# Altium footprint library PcbLib.PcbLib: 63 footprints (part 1 of 4)
Each footprint in its own frame and in the unit in brackets; x right, y up, seen from the top. Pads: shape width x height; smd on the part's side, far side on the other; paste and mask are expansions set on the pad; w line width, h text height; cw(c..) or ccw(c..) is an arc to the next point about the centre after c.
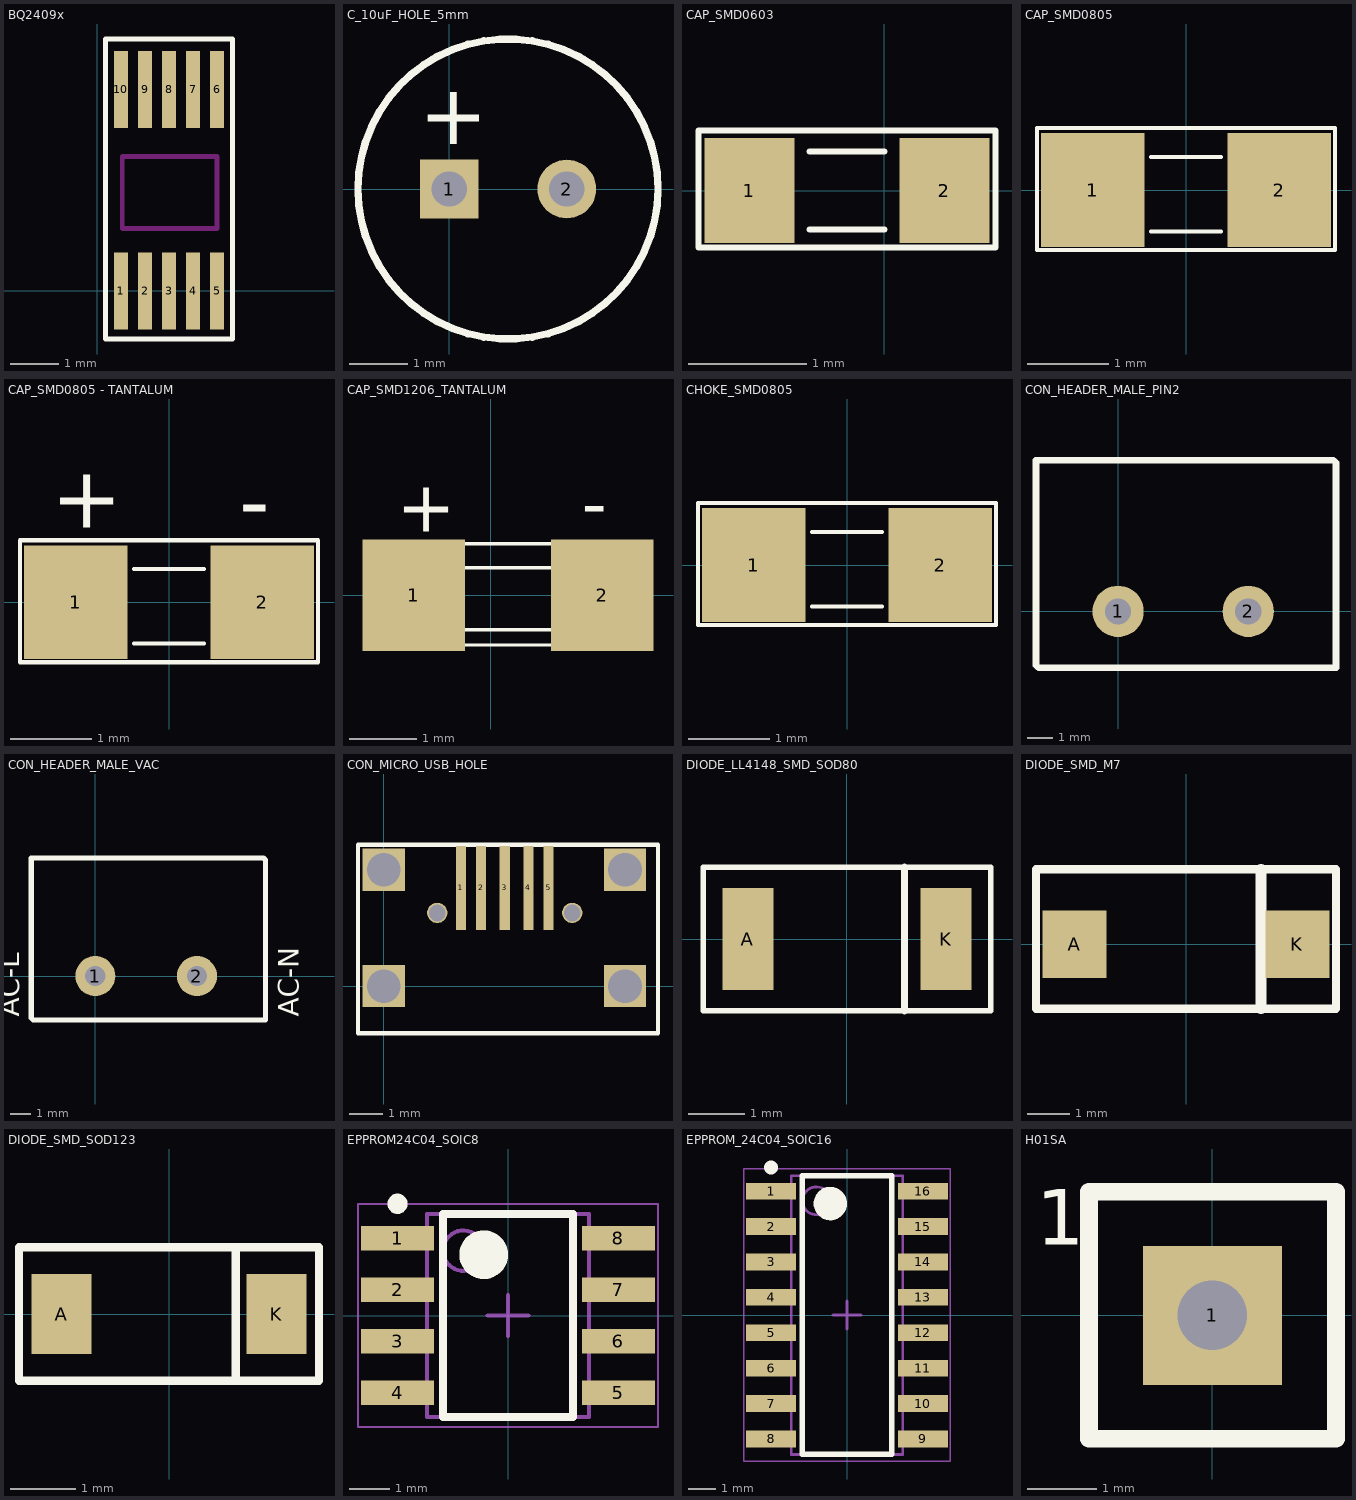
[diagram p0: the footprints below, top view; thin cyan lines are the x and y axes]

## BQ2409x [mm]
pads (10):
  rect 0.3x1.6 smd: 1(0.5,0) 2(1,0) 3(1.5,0) 4(2,0) 5(2.5,0) 6(2.5,4.2) 7(2,4.2) 8(1.5,4.2) 9(1,4.2) 10(0.5,4.2)
Top Overlay:
  lines w0.1: 0.175,-1 0.175,5.25 2.825,5.25 2.825,-1 0.175,-1
Keep-Out Layer:
  lines w0.1: 0.525,1.3 2.5,1.3 2.5,2.8 1.7,2.8 0.525,2.8 0.525,1.3
3D body: height 1, standoff 0.5, extent 0.508,-0.254 2.54,4.826

## C_10uF_HOLE_5mm [mm]
pads (2):
  rect 1x1 hole 0.6: 1(0,0)
  round 1 hole 0.6: 2(2,0)
Top Overlay:
  circle w0.127: c1,0 r2.551
  text "+" at -0.508,0.762 h1.02
3D body "CircuitWorks-CAPACITOR- PANASONIC M SERIES.step": height 11, standoff -5, extent -1.5,-2.5 3.5,2.5

## CAP_SMD0603 [mil] "Compoment SMD 60x30mil"
height 50
pads (2):
  rect 30x35 smd: 1(-45,0) 2(20,0)
Top Overlay:
  lines w2: -25,-13 0,-13 ; -25,13 0,13 ; -62,-19 -62,20 37,20 37,-19 -0.25,-19 -52.75,-19 -62,-19
3D body "CircuitWorks-CAPACITOR 0603.step": height 32.68, standoff -1.18, extent -46.49,-16.92 16.51,16.93

## CAP_SMD0805 [mil] "Compoment SMD 80x50mil"
height 50
pads (2):
  rect 50x55 smd: 1(-45,0) 2(45,0)
Top Overlay:
  lines w2: -17,-20 17,-20 ; -17,16 17,16 ; -72,-29 72,-29 72,30 -72,30 -72,-29
3D body "User Library-CAPC2012X___.STEP": height 22.44, standoff 0, extent -39.36,-24.99 39.38,25

## CAP_SMD0805 - TANTALUM [mil] "Compoment SMD 80x50mil"
height 50
pads (2):
  rect 50x55 smd: 1(-45,0) 2(45,0)
Top Overlay:
  lines w2: -17,-20 17,-20 ; -17,16 17,16 ; -72,-29 -72,30 72,30 72,-29 -72,-29
  text "+" at -57,36 h30
  text "-" at 34,34 h30
3D body "User Library-CAPC2012X___.STEP": height 22.44, standoff 0, extent -39.36,-24.99 39.38,25

## CAP_SMD1206_TANTALUM [mil] "Compoment SMD 80x50mil"
height 50
pads (2):
  rect 60x65 smd: 1(-45,0) 2(65,0)
Top Overlay:
  lines w2: -17,-20 39,-20 ; -17,16 38,16 ; -72,-29 -72,30 72,30 72,-29 -72,-29
  text "+" at -55,37 h30
  text "-" at 53,39 h30
3D body "CircuitWorks-CAPACITOR 1206.step": height 64.68, standoff -0.68, extent -52.99,-31.42 72.99,30

## CHOKE_SMD0805 [mil] "Compoment SMD 80x50mil"
height 50
pads (2):
  rect 50x55 smd: 1(-45,0) 2(45,0)
Top Overlay:
  lines w2: -17,-20 17,-20 ; -17,16 17,16 ; -72,-29 -72,30 72,30 72,-29 -72,-29
3D body "User Library-CAPC2012X___.STEP": height 22.44, standoff 0, extent -39.36,-24.99 39.38,25

## CON_HEADER_MALE_PIN2 [mm]
pads (2):
  round 2 hole 1.02: 1(0,0) 2(5.08,0)
Top Overlay:
  lines w0.254: -3.2,5.8 -3.2,-2.1 -3.1,-2.2 -3,-2.2 8.5,-2.2 8.5,5.8 8.4,5.9 -3.2,5.9
3D body "User Library-Termial Pugin 2P 5mm.step": height 15.5, standoff -4, extent -3.2,-2.3 8.4,19.2

## CON_HEADER_MALE_VAC [mm]
pads (2):
  round 2 hole 1.02: 1(0,0) 2(5.08,0)
Top Overlay:
  lines w0.254: -3.2,5.8 -3.2,-2.1 -3.1,-2.2 -3,-2.2 8.5,-2.2 8.5,5.8 8.4,5.9 -3.2,5.9
  text "AC-N" at 10.16,-2.032 h1.02
  text "AC-L" at -3.81,-2.032 h1.02
3D body "User Library-Termial Pugin 2P 5mm.step": height 15.5, standoff -4, extent -3.2,-2.3 8.4,19.2

## CON_MICRO_USB_HOLE [mm]
pads (11):
  rect 0.3x2.5 smd mask+0.05: 1(2.286,2.91) 2(2.886,2.91) 3(3.586,2.91) 4(4.286,2.91) 5(4.886,2.91)
  rect 1.25x1.25 hole 1 mask+0.05: ""(0,0) ""(0,3.45) ""(7.15,0) ""(7.15,3.45)
  round 0.6 hole 0.5 mask+0.05: ""(1.586,2.17) ""(5.586,2.17)
Top Overlay:
  lines w0.127: -0.762,-1.397 -0.762,4.191 8.128,4.191 8.128,-1.397 -0.762,-1.397
3D body "User Library-10104111.STEP": height 2.77, standoff -0.3, extent -0.717,-1.449 8.083,4.176

## DIODE_LL4148_SMD_SOD80 [mm]
pads (2):
  rect 0.9x1.8 smd: A(-1.75,0) K(1.75,0)
Top Overlay:
  lines w0.1: -2.54,-1.27 2.54,-1.27 2.54,1.27 -2.54,1.27 -2.54,-0.74 -2.54,-1.27
  lines w0.127: 1.016,-1.27 1.016,1.27
3D body "User Library-MiniMelf-2.step": height 1.6, standoff 0, extent -1.82,-0.8 1.88,0.8

## DIODE_SMD_M7 [mm]
pads (2):
  rect 1.52x1.6 smd: A(-2.64,0) K(2.64,0)
Top Overlay:
  lines w0.2: -3.556,-1.524 -3.556,-0.528 -3.556,1.778 3.556,1.778 3.556,-1.524 -3.556,-1.524
  lines w0.254: 1.778,-1.524 1.778,1.778
3D body "User Library-Diode SMD 1N4007.step": height 2.4, standoff -0.03, extent -2.904,-1.525 2.396,1.585

## DIODE_SMD_SOD123 [mil]
pads (2):
  rect 36x48 smd: A(-64.5,0) K(64.5,0)
Top Overlay:
  lines w5: 40,-40 40,40 ; -90,-40 90,-40 90,40 -90,40 -90,-28.5 -90,-40
3D body "CircuitWorks-SOD123.step": height 50, standoff 0, extent -72.83,-31.49 72.84,31.5

## EPPROM24C04_SOIC8 [mm]
height 1.35
pads (8):
  rect 1.8x0.6 smd: 1(-2.725,1.905) 2(-2.725,0.635) 3(-2.725,-0.635) 4(-2.725,-1.905) 5(2.725,-1.905) 6(2.725,-0.635) 7(2.725,0.635) 8(2.725,1.905)
Top Overlay:
  circle w0.25: c-2.725,2.755 r0.125
  circle w0.6: c-0.6,1.5 r0.3
  lines w0.2: -1.6,-2.5 -1.6,2.5 1.6,2.5 1.6,-2.5 -1.6,-2.5
Mechanical 13:
  circle w0.1: c-1.1,1.6 r0.5
  lines w0.1: -2,-2.5 -2,2.5 2,2.5 2,-2.5 -2,-2.5
Mechanical 15:
  lines w0.05: -3.7,-2.75 -3.7,2.75 3.7,2.75 3.7,-2.75 -3.7,-2.75
  lines w0.1: -0.5,0 0.5,0 ; 0,-0.5 0,0.5
3D body: height 1.35, standoff 0.1, extent -2,-2.5 2,2.5

## EPPROM_24C04_SOIC16 [mm] "EPPROM24 SURFACE SOIC16"
height 1.75
pads (16):
  rect 1.8x0.6 smd: 1(-2.725,4.445) 2(-2.725,3.175) 3(-2.725,1.905) 4(-2.725,0.635) 5(-2.725,-0.635) 6(-2.725,-1.905) 7(-2.725,-3.175) 8(-2.725,-4.445) 9(2.725,-4.445) 10(2.725,-3.175) 11(2.725,-1.905) 12(2.725,-0.635) 13(2.725,0.635) 14(2.725,1.905) 15(2.725,3.175) 16(2.725,4.445)
Top Overlay:
  circle w0.25: c-2.725,5.295 r0.125
  circle w0.6: c-0.6,4 r0.3
  lines w0.2: -1.6,-5 -1.6,5 1.6,5 1.6,-5 -1.6,-5
Mechanical 13:
  circle w0.1: c-1.1,4.1 r0.5
  lines w0.1: -2,-5 -2,5 2,5 2,-5 -2,-5
Mechanical 15:
  lines w0.05: -3.7,-5.25 -3.7,5.25 3.7,5.25 3.7,-5.25 -3.7,-5.25
  lines w0.1: -0.5,0 0.5,0 ; 0,-0.5 0,0.5
3D body: height 1.75, standoff 0.2, extent -2,-5 2,5

## H01SA [mm] "HEADER, SINGLE, DISTANCE = 100mil"
pads (1):
  rect 2x2 hole 1: 1(0,0)
Top Overlay:
  lines w0.254: -1.778,-1.778 -1.778,1.778 1.778,1.778 1.778,-1.778 -1.778,-1.778
  text "1" at -2.54,1.016 h0.8